# Altium schematic symbol library SchematicLib.SCHLIB: 3 symbols
Pins are listed as number, name and electrical type; pins without a type are passive.

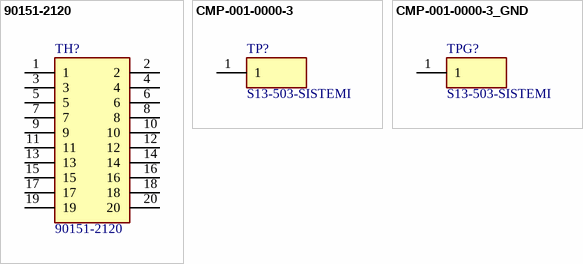
[diagram p0: symbols 90151-2120 to CMP-001-0000-3_GND]

## 90151-2120
designator TH?
Connector; Manufacturer_Name: Molex; Datasheet Link: https://www.molex.com/pdm_docs/sd/901512120_sd.pdf; Height: 8.7mm; Manufacturer_Part_Number: 90151-2120; Mouser Part Number: 538-90151-2120; Mouser Price/Stock: https://www.mouser.co.uk/ProductDetail/Molex/90151-2120?qs=XmV31zLAuMHqFInYdcmaXg%3D%3D
footprint 90151-2120
pins: 1, 2, 3, 4, 5, 6, 7, 8, 9, 10, 11, 12, 13, 14, 15, 16, 17, 18, 19, 20

## CMP-001-0000-3
designator TP?, comment S13-503-SISTEMI
Sistemi Version of Hirose S13-503
footprint CMP-001-0000-3
pins: 1

## CMP-001-0000-3_GND
designator TPG?, comment S13-503-SISTEMI
Sistemi Version of Hirose S13-503 (GND)
footprint CMP-001-0000-3
pins: 1